# Altium footprint library IPC-7356 PLCC_Sq_127P_Ctr_L.PcbLib: 8 footprints
Each footprint in its own frame and in the unit in brackets; x right, y up, seen from the top. Pads: shape width x height; smd on the part's side, far side on the other; paste and mask are expansions set on the pad; w line width, h text height; cw(c..) or ccw(c..) is an arc to the next point about the centre after c.
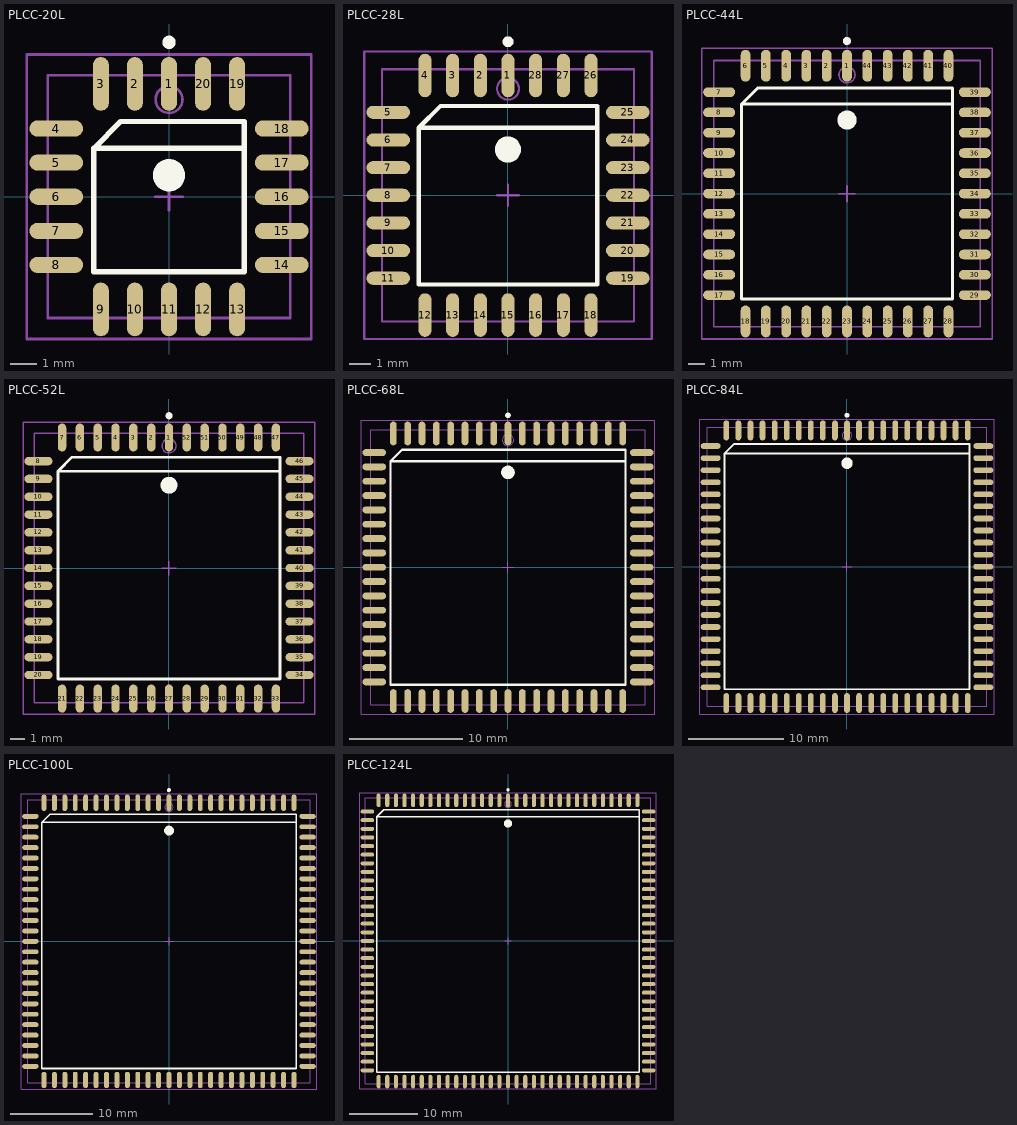
[diagram p0: the footprints below, top view; thin cyan lines are the x and y axes]

## PLCC-20L [mm] "Leaded Chip Carrier, 20-Leads, Body 9x9mm, Pitch 1.27mm, IPC High Density"
height 4.57
pads (20):
  oval 0.6x2 smd: 1(0,4.2) 2(-1.27,4.2) 3(-2.54,4.2) 9(-2.54,-4.2) 10(-1.27,-4.2) 11(0,-4.2) 12(1.27,-4.2) 13(2.54,-4.2) 19(2.54,4.2) 20(1.27,4.2)
  oval 2x0.6 smd: 4(-4.2,2.54) 5(-4.2,1.27) 6(-4.2,0) 7(-4.2,-1.27) 8(-4.2,-2.54) 14(4.2,-2.54) 15(4.2,-1.27) 16(4.2,0) 17(4.2,1.27) 18(4.2,2.54)
Top Overlay:
  circle w0.6: c0,0.8 r0.3
  circle w0.25: c0,5.75 r0.125
  lines w0.2: 2.8,1.8 -2.8,1.8 ; -2.8,1.8 -2.8,-2.8 2.8,-2.8 2.8,2.8 -1.8,2.8 -2.8,1.8
Mechanical 13:
  circle w0.1: c0,3.62 r0.5
  lines w0.1: -4.52,-4.52 4.52,-4.52 4.52,4.52 -4.52,4.52 -4.52,-4.52
Mechanical 15:
  lines w0.1: -0.5,0 0.5,0 ; 0,-0.5 0,0.5 ; -5.3,-5.3 5.3,-5.3 5.3,5.3 -5.3,5.3 -5.3,-5.3
3D body: height 4.57, standoff 0, extent -4.52,-4.52 4.52,4.52

## PLCC-28L [mm] "Leaded Chip Carrier, 28-Leads, Body 11.5x11.5mm, Pitch 1.27mm, IPC High Density"
height 4.57
pads (28):
  oval 0.6x2 smd: 1(0,5.5) 2(-1.27,5.5) 3(-2.54,5.5) 4(-3.81,5.5) 12(-3.81,-5.5) 13(-2.54,-5.5) 14(-1.27,-5.5) 15(0,-5.5) 16(1.27,-5.5) 17(2.54,-5.5) 18(3.81,-5.5) 26(3.81,5.5) 27(2.54,5.5) 28(1.27,5.5)
  oval 2x0.6 smd: 5(-5.5,3.81) 6(-5.5,2.54) 7(-5.5,1.27) 8(-5.5,0) 9(-5.5,-1.27) 10(-5.5,-2.54) 11(-5.5,-3.81) 19(5.5,-3.81) 20(5.5,-2.54) 21(5.5,-1.27) 22(5.5,0) 23(5.5,1.27) 24(5.5,2.54) 25(5.5,3.81)
Top Overlay:
  circle w0.25: c0,7.05 r0.125
  circle w0.6: c0,2.1 r0.3
  lines w0.2: 4.1,3.1 -4.1,3.1 ; -4.1,3.1 -3.1,4.1 4.1,4.1 4.1,-4.1 -4.1,-4.1 -4.1,3.1
Mechanical 13:
  circle w0.1: c0,4.89 r0.5
  lines w0.1: -5.79,-5.79 -5.79,5.79 5.79,5.79 5.79,-5.79 -5.79,-5.79
Mechanical 15:
  lines w0.1: -0.5,0 0.5,0 ; 0,-0.5 0,0.5 ; -6.6,-6.6 -6.6,6.6 6.6,6.6 6.6,-6.6 -6.6,-6.6
3D body: height 4.57, standoff 0, extent -5.79,-5.79 5.79,5.79

## PLCC-44L [mm] "Leaded Chip Carrier, 44-Leads, Body 16.6x16.6mm, Pitch 1.27mm, IPC High Density"
height 4.57
pads (44):
  oval 0.6x2 smd: 1(0,8) 2(-1.27,8) 3(-2.54,8) 4(-3.81,8) 5(-5.08,8) 6(-6.35,8) 18(-6.35,-8) 19(-5.08,-8) 20(-3.81,-8) 21(-2.54,-8) 22(-1.27,-8) 23(0,-8) 24(1.27,-8) 25(2.54,-8) 26(3.81,-8) 27(5.08,-8) 28(6.35,-8) 40(6.35,8) 41(5.08,8) 42(3.81,8) 43(2.54,8) 44(1.27,8)
  oval 2x0.6 smd: 7(-8,6.35) 8(-8,5.08) 9(-8,3.81) 10(-8,2.54) 11(-8,1.27) 12(-8,0) 13(-8,-1.27) 14(-8,-2.54) 15(-8,-3.81) 16(-8,-5.08) 17(-8,-6.35) 29(8,-6.35) 30(8,-5.08) 31(8,-3.81) 32(8,-2.54) 33(8,-1.27) 34(8,0) 35(8,1.27) 36(8,2.54) 37(8,3.81) 38(8,5.08) 39(8,6.35)
Top Overlay:
  circle w0.25: c0,9.55 r0.125
  circle w0.6: c0,4.6 r0.3
  lines w0.2: 6.6,5.6 -6.6,5.6 ; -6.6,5.6 -5.6,6.6 6.6,6.6 6.6,-6.6 -6.6,-6.6 -6.6,5.6
Mechanical 13:
  circle w0.1: c0,7.43 r0.5
  lines w0.1: -8.33,-8.33 -8.33,8.33 8.33,8.33 8.33,-8.33 -8.33,-8.33
Mechanical 15:
  lines w0.1: -0.5,0 0.5,0 ; 0,-0.5 0,0.5 ; -9.1,-9.1 -9.1,9.1 9.1,9.1 9.1,-9.1 -9.1,-9.1
3D body: height 4.57, standoff 0, extent -8.33,-8.33 8.33,8.33

## PLCC-52L [mm] "Leaded Chip Carrier, 52-Leads, Body 19x19mm, Pitch 1.27mm, IPC High Density"
height 5.08
pads (52):
  oval 0.6x2 smd: 1(0,9.3) 2(-1.27,9.3) 3(-2.54,9.3) 4(-3.81,9.3) 5(-5.08,9.3) 6(-6.35,9.3) 7(-7.62,9.3) 21(-7.62,-9.3) 22(-6.35,-9.3) 23(-5.08,-9.3) 24(-3.81,-9.3) 25(-2.54,-9.3) 26(-1.27,-9.3) 27(0,-9.3) 28(1.27,-9.3) 29(2.54,-9.3) 30(3.81,-9.3) 31(5.08,-9.3) 32(6.35,-9.3) 33(7.62,-9.3) 47(7.62,9.3) 48(6.35,9.3) 49(5.08,9.3) 50(3.81,9.3) 51(2.54,9.3) 52(1.27,9.3)
  oval 2x0.6 smd: 8(-9.3,7.62) 9(-9.3,6.35) 10(-9.3,5.08) 11(-9.3,3.81) 12(-9.3,2.54) 13(-9.3,1.27) 14(-9.3,0) 15(-9.3,-1.27) 16(-9.3,-2.54) 17(-9.3,-3.81) 18(-9.3,-5.08) 19(-9.3,-6.35) 20(-9.3,-7.62) 34(9.3,-7.62) 35(9.3,-6.35) 36(9.3,-5.08) 37(9.3,-3.81) 38(9.3,-2.54) 39(9.3,-1.27) 40(9.3,0) 41(9.3,1.27) 42(9.3,2.54) 43(9.3,3.81) 44(9.3,5.08) 45(9.3,6.35) 46(9.3,7.62)
Top Overlay:
  circle w0.25: c0,10.85 r0.125
  circle w0.6: c0,5.9 r0.3
  lines w0.2: 7.9,6.9 -7.9,6.9 ; -7.9,6.9 -6.9,7.9 7.9,7.9 7.9,-7.9 -7.9,-7.9 -7.9,6.9
Mechanical 13:
  circle w0.1: c0,8.7 r0.5
  lines w0.1: -9.6,-9.6 -9.6,9.6 9.6,9.6 9.6,-9.6 -9.6,-9.6
Mechanical 15:
  lines w0.1: -0.5,0 0.5,0 ; 0,-0.5 0,0.5 ; -10.4,-10.4 -10.4,10.4 10.4,10.4 10.4,-10.4 -10.4,-10.4
3D body: height 5.08, standoff 0, extent -9.6,-9.6 9.6,9.6

## PLCC-68L [mm] "Leaded Chip Carrier, 68-Leads, Body 24x24mm, Pitch 1.27mm, IPC High Density"
height 5.08
pads (68):
  oval 0.6x2.1 smd: 1(0,11.85) 2(-1.27,11.85) 3(-2.54,11.85) 4(-3.81,11.85) 5(-5.08,11.85) 6(-6.35,11.85) 7(-7.62,11.85) 8(-8.89,11.85) 9(-10.16,11.85) 27(-10.16,-11.85) 28(-8.89,-11.85) 29(-7.62,-11.85) 30(-6.35,-11.85) 31(-5.08,-11.85) 32(-3.81,-11.85) 33(-2.54,-11.85) 34(-1.27,-11.85) 35(0,-11.85) 36(1.27,-11.85) 37(2.54,-11.85) 38(3.81,-11.85) 39(5.08,-11.85) 40(6.35,-11.85) 41(7.62,-11.85) 42(8.89,-11.85) 43(10.16,-11.85) 61(10.16,11.85) 62(8.89,11.85) 63(7.62,11.85) 64(6.35,11.85) 65(5.08,11.85) 66(3.81,11.85) 67(2.54,11.85) 68(1.27,11.85)
  oval 2.1x0.6 smd: 10(-11.85,10.16) 11(-11.85,8.89) 12(-11.85,7.62) 13(-11.85,6.35) 14(-11.85,5.08) 15(-11.85,3.81) 16(-11.85,2.54) 17(-11.85,1.27) 18(-11.85,0) 19(-11.85,-1.27) 20(-11.85,-2.54) 21(-11.85,-3.81) 22(-11.85,-5.08) 23(-11.85,-6.35) 24(-11.85,-7.62) 25(-11.85,-8.89) 26(-11.85,-10.16) 44(11.85,-10.16) 45(11.85,-8.89) 46(11.85,-7.62) 47(11.85,-6.35) 48(11.85,-5.08) 49(11.85,-3.81) 50(11.85,-2.54) 51(11.85,-1.27) 52(11.85,0) 53(11.85,1.27) 54(11.85,2.54) 55(11.85,3.81) 56(11.85,5.08) 57(11.85,6.35) 58(11.85,7.62) 59(11.85,8.89) 60(11.85,10.16)
Top Overlay:
  circle w0.25: c0,13.45 r0.125
  circle w0.6: c0,8.4 r0.3
  lines w0.2: 10.4,9.4 -10.4,9.4 ; -10.4,9.4 -9.4,10.4 10.4,10.4 10.4,-10.4 -10.4,-10.4 -10.4,9.4
Mechanical 13:
  circle w0.1: c0,11.265 r0.5
  lines w0.1: -12.165,-12.165 -12.165,12.165 12.165,12.165 12.165,-12.165 -12.165,-12.165
Mechanical 15:
  lines w0.1: -0.5,0 0.5,0 ; 0,-0.5 0,0.5 ; -13,-13 -13,13 13,13 13,-13 -13,-13
3D body: height 5.08, standoff 0, extent -12.165,-12.165 12.165,12.165

## PLCC-84L [mm] "Leaded Chip Carrier, 84-Leads, Body 29.3x29.3mm, Pitch 1.27mm, IPC High Density"
height 5.08
pads (84):
  oval 0.6x2.1 smd: 1(0,14.35) 2(-1.27,14.35) 3(-2.54,14.35) 4(-3.81,14.35) 5(-5.08,14.35) 6(-6.35,14.35) 7(-7.62,14.35) 8(-8.89,14.35) 9(-10.16,14.35) 10(-11.43,14.35) 11(-12.7,14.35) 33(-12.7,-14.35) 34(-11.43,-14.35) 35(-10.16,-14.35) 36(-8.89,-14.35) 37(-7.62,-14.35) 38(-6.35,-14.35) 39(-5.08,-14.35) 40(-3.81,-14.35) 41(-2.54,-14.35) 42(-1.27,-14.35) 43(0,-14.35) 44(1.27,-14.35) 45(2.54,-14.35) 46(3.81,-14.35) 47(5.08,-14.35) 48(6.35,-14.35) 49(7.62,-14.35) 50(8.89,-14.35) 51(10.16,-14.35) 52(11.43,-14.35) 53(12.7,-14.35) 75(12.7,14.35) 76(11.43,14.35) 77(10.16,14.35) 78(8.89,14.35) 79(7.62,14.35) 80(6.35,14.35) 81(5.08,14.35) 82(3.81,14.35) 83(2.54,14.35) 84(1.27,14.35)
  oval 2.1x0.6 smd: 12(-14.35,12.7) 13(-14.35,11.43) 14(-14.35,10.16) 15(-14.35,8.89) 16(-14.35,7.62) 17(-14.35,6.35) 18(-14.35,5.08) 19(-14.35,3.81) 20(-14.35,2.54) 21(-14.35,1.27) 22(-14.35,0) 23(-14.35,-1.27) 24(-14.35,-2.54) 25(-14.35,-3.81) 26(-14.35,-5.08) 27(-14.35,-6.35) 28(-14.35,-7.62) 29(-14.35,-8.89) 30(-14.35,-10.16) 31(-14.35,-11.43) 32(-14.35,-12.7) 54(14.35,-12.7) 55(14.35,-11.43) 56(14.35,-10.16) 57(14.35,-8.89) 58(14.35,-7.62) 59(14.35,-6.35) 60(14.35,-5.08) 61(14.35,-3.81) 62(14.35,-2.54) 63(14.35,-1.27) 64(14.35,0) 65(14.35,1.27) 66(14.35,2.54) 67(14.35,3.81) 68(14.35,5.08) 69(14.35,6.35) 70(14.35,7.62) 71(14.35,8.89) 72(14.35,10.16) 73(14.35,11.43) 74(14.35,12.7)
Top Overlay:
  circle w0.25: c0,15.95 r0.125
  circle w0.6: c0,10.9 r0.3
  lines w0.2: 12.9,11.9 -12.9,11.9 ; -12.9,11.9 -11.9,12.9 12.9,12.9 12.9,-12.9 -12.9,-12.9 -12.9,11.9
Mechanical 13:
  circle w0.1: c0,13.805 r0.5
  lines w0.1: -14.705,-14.705 -14.705,14.705 14.705,14.705 14.705,-14.705 -14.705,-14.705
Mechanical 15:
  lines w0.1: -0.5,0 0.5,0 ; 0,-0.5 0,0.5 ; -15.5,-15.5 -15.5,15.5 15.5,15.5 15.5,-15.5 -15.5,-15.5
3D body: height 5.08, standoff 0, extent -14.705,-14.705 14.705,14.705

## PLCC-100L [mm] "Leaded Chip Carrier, 100-Leads, Body 34.4x34.4mm, Pitch 1.27mm, IPC High Density"
height 5.08
pads (100):
  oval 0.6x2 smd: 1(0,16.9) 2(-1.27,16.9) 3(-2.54,16.9) 4(-3.81,16.9) 5(-5.08,16.9) 6(-6.35,16.9) 7(-7.62,16.9) 8(-8.89,16.9) 9(-10.16,16.9) 10(-11.43,16.9) 11(-12.7,16.9) 12(-13.97,16.9) 13(-15.24,16.9) 39(-15.24,-16.9) 40(-13.97,-16.9) 41(-12.7,-16.9) 42(-11.43,-16.9) 43(-10.16,-16.9) 44(-8.89,-16.9) 45(-7.62,-16.9) 46(-6.35,-16.9) 47(-5.08,-16.9) 48(-3.81,-16.9) 49(-2.54,-16.9) 50(-1.27,-16.9) 51(0,-16.9) 52(1.27,-16.9) 53(2.54,-16.9) 54(3.81,-16.9) 55(5.08,-16.9) 56(6.35,-16.9) 57(7.62,-16.9) 58(8.89,-16.9) 59(10.16,-16.9) 60(11.43,-16.9) 61(12.7,-16.9) 62(13.97,-16.9) 63(15.24,-16.9) 89(15.24,16.9) 90(13.97,16.9) 91(12.7,16.9) 92(11.43,16.9) 93(10.16,16.9) 94(8.89,16.9) 95(7.62,16.9) 96(6.35,16.9) 97(5.08,16.9) 98(3.81,16.9) 99(2.54,16.9) 100(1.27,16.9)
  oval 2x0.6 smd: 14(-16.9,15.24) 15(-16.9,13.97) 16(-16.9,12.7) 17(-16.9,11.43) 18(-16.9,10.16) 19(-16.9,8.89) 20(-16.9,7.62) 21(-16.9,6.35) 22(-16.9,5.08) 23(-16.9,3.81) 24(-16.9,2.54) 25(-16.9,1.27) 26(-16.9,0) 27(-16.9,-1.27) 28(-16.9,-2.54) 29(-16.9,-3.81) 30(-16.9,-5.08) 31(-16.9,-6.35) 32(-16.9,-7.62) 33(-16.9,-8.89) 34(-16.9,-10.16) 35(-16.9,-11.43) 36(-16.9,-12.7) 37(-16.9,-13.97) 38(-16.9,-15.24) 64(16.9,-15.24) 65(16.9,-13.97) 66(16.9,-12.7) 67(16.9,-11.43) 68(16.9,-10.16) 69(16.9,-8.89) 70(16.9,-7.62) 71(16.9,-6.35) 72(16.9,-5.08) 73(16.9,-3.81) 74(16.9,-2.54) 75(16.9,-1.27) 76(16.9,0) 77(16.9,1.27) 78(16.9,2.54) 79(16.9,3.81) 80(16.9,5.08) 81(16.9,6.35) 82(16.9,7.62) 83(16.9,8.89) 84(16.9,10.16) 85(16.9,11.43) 86(16.9,12.7) 87(16.9,13.97) 88(16.9,15.24)
Top Overlay:
  circle w0.25: c0,18.45 r0.125
  circle w0.6: c0,13.5 r0.3
  lines w0.2: 15.5,14.5 -15.5,14.5 ; -15.5,14.5 -14.5,15.5 15.5,15.5 15.5,-15.5 -15.5,-15.5 -15.5,14.5
Mechanical 13:
  circle w0.1: c0,16.345 r0.5
  lines w0.1: -17.245,-17.245 -17.245,17.245 17.245,17.245 17.245,-17.245 -17.245,-17.245
Mechanical 15:
  lines w0.1: -0.5,0 0.5,0 ; 0,-0.5 0,0.5 ; -18,-18 -18,18 18,18 18,-18 -18,-18
3D body: height 5.08, standoff 0, extent -17.245,-17.245 17.245,17.245

## PLCC-124L [mm] "Leaded Chip Carrier, 124-Leads, Body 42x42mm, Pitch 1.27mm, IPC High Density"
height 5.08
pads (124):
  oval 0.6x2 smd: 1(0,20.7) 2(-1.27,20.7) 3(-2.54,20.7) 4(-3.81,20.7) 5(-5.08,20.7) 6(-6.35,20.7) 7(-7.62,20.7) 8(-8.89,20.7) 9(-10.16,20.7) 10(-11.43,20.7) 11(-12.7,20.7) 12(-13.97,20.7) 13(-15.24,20.7) 14(-16.51,20.7) 15(-17.78,20.7) 16(-19.05,20.7) 48(-19.05,-20.7) 49(-17.78,-20.7) 50(-16.51,-20.7) 51(-15.24,-20.7) 52(-13.97,-20.7) 53(-12.7,-20.7) 54(-11.43,-20.7) 55(-10.16,-20.7) 56(-8.89,-20.7) 57(-7.62,-20.7) 58(-6.35,-20.7) 59(-5.08,-20.7) 60(-3.81,-20.7) 61(-2.54,-20.7) 62(-1.27,-20.7) 63(0,-20.7) 64(1.27,-20.7) 65(2.54,-20.7) 66(3.81,-20.7) 67(5.08,-20.7) 68(6.35,-20.7) 69(7.62,-20.7) 70(8.89,-20.7) 71(10.16,-20.7) 72(11.43,-20.7) 73(12.7,-20.7) 74(13.97,-20.7) 75(15.24,-20.7) 76(16.51,-20.7) 77(17.78,-20.7) 78(19.05,-20.7) 110(19.05,20.7) 111(17.78,20.7) 112(16.51,20.7) 113(15.24,20.7) 114(13.97,20.7) 115(12.7,20.7) 116(11.43,20.7) 117(10.16,20.7) 118(8.89,20.7) 119(7.62,20.7) 120(6.35,20.7) 121(5.08,20.7) 122(3.81,20.7) 123(2.54,20.7) 124(1.27,20.7)
  oval 2x0.6 smd: 17(-20.7,19.05) 18(-20.7,17.78) 19(-20.7,16.51) 20(-20.7,15.24) 21(-20.7,13.97) 22(-20.7,12.7) 23(-20.7,11.43) 24(-20.7,10.16) 25(-20.7,8.89) 26(-20.7,7.62) 27(-20.7,6.35) 28(-20.7,5.08) 29(-20.7,3.81) 30(-20.7,2.54) 31(-20.7,1.27) 32(-20.7,0) 33(-20.7,-1.27) 34(-20.7,-2.54) 35(-20.7,-3.81) 36(-20.7,-5.08) 37(-20.7,-6.35) 38(-20.7,-7.62) 39(-20.7,-8.89) 40(-20.7,-10.16) 41(-20.7,-11.43) 42(-20.7,-12.7) 43(-20.7,-13.97) 44(-20.7,-15.24) 45(-20.7,-16.51) 46(-20.7,-17.78) 47(-20.7,-19.05) 79(20.7,-19.05) 80(20.7,-17.78) 81(20.7,-16.51) 82(20.7,-15.24) 83(20.7,-13.97) 84(20.7,-12.7) 85(20.7,-11.43) 86(20.7,-10.16) 87(20.7,-8.89) 88(20.7,-7.62) 89(20.7,-6.35) 90(20.7,-5.08) 91(20.7,-3.81) 92(20.7,-2.54) 93(20.7,-1.27) 94(20.7,0) 95(20.7,1.27) 96(20.7,2.54) 97(20.7,3.81) 98(20.7,5.08) 99(20.7,6.35) 100(20.7,7.62) 101(20.7,8.89) 102(20.7,10.16) 103(20.7,11.43) 104(20.7,12.7) 105(20.7,13.97) 106(20.7,15.24) 107(20.7,16.51) 108(20.7,17.78) 109(20.7,19.05)
Top Overlay:
  circle w0.25: c0,22.25 r0.125
  circle w0.6: c0,17.3 r0.3
  lines w0.2: 19.3,18.3 -19.3,18.3 ; -19.3,18.3 -18.3,19.3 19.3,19.3 19.3,-19.3 -19.3,-19.3 -19.3,18.3
Mechanical 13:
  circle w0.1: c0,20.155 r0.5
  lines w0.1: -21.055,-21.055 -21.055,21.055 21.055,21.055 21.055,-21.055 -21.055,-21.055
Mechanical 15:
  lines w0.1: -0.5,0 0.5,0 ; 0,-0.5 0,0.5 ; -21.8,-21.8 -21.8,21.8 21.8,21.8 21.8,-21.8 -21.8,-21.8
3D body: height 5.08, standoff 0, extent -21.055,-21.055 21.055,21.055